# Altium schematic symbol library MINI-CIRCUITS_ADE.SchLib: 1 symbol
Pins are listed as number, name and electrical type; pins without a type are passive.

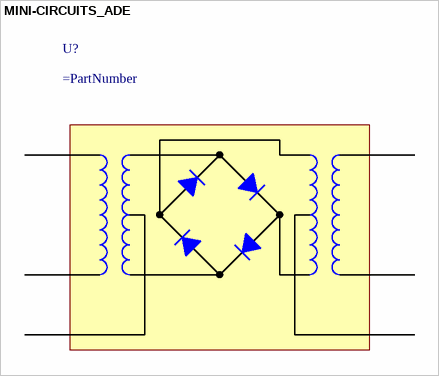
[diagram p0: symbol MINI-CIRCUITS_ADE]

## MINI-CIRCUITS_ADE
designator U?
pins: 1, 2 I, 3 R, 4, 5, 6 L